# Altium schematic symbol library con-neutrik_ag.SCHLIB: 73 symbols
Pins are listed as number, name and electrical type; pins without a type are passive.

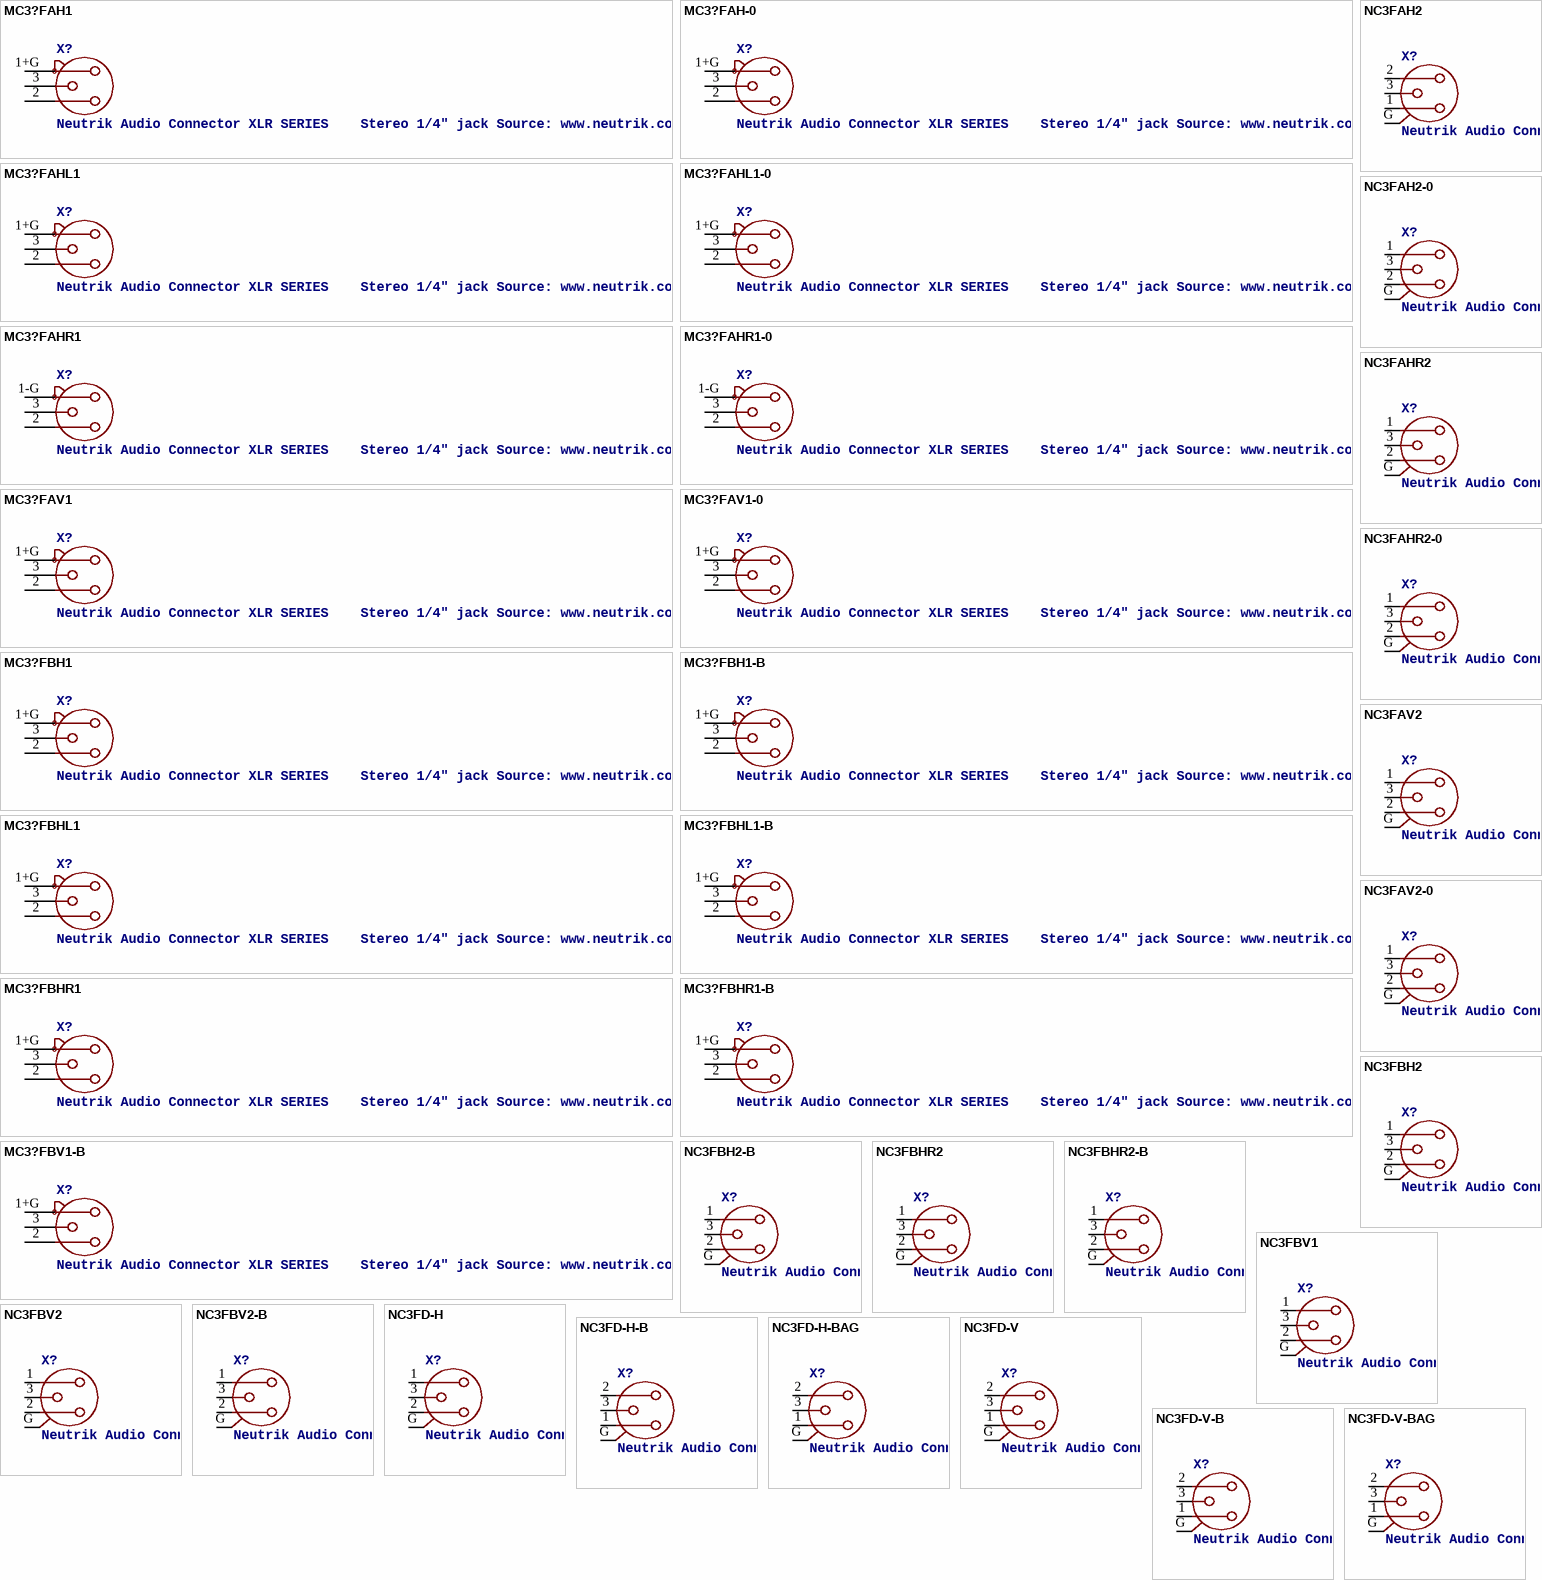
[diagram p0: symbols MC3?FAH1 to NC3FD-V-BAG]

## MC3?FAH1
designator X?, comment Neutrik Audio Connector XLR SERIES    Stereo 1/4" jack Source: www.neutrik.com/
OC_FARNELL: unknown; OC_NEWARK: unknown
footprint NC3FAH1
pins: 1+G 1, 2, 3

## MC3?FAH-0
designator X?, comment Neutrik Audio Connector XLR SERIES    Stereo 1/4" jack Source: www.neutrik.com/
OC_FARNELL: unknown; OC_NEWARK: unknown
footprint NC3FAH1-0
pins: 1+G 1, 2, 3

## MC3?FAHL1
designator X?, comment Neutrik Audio Connector XLR SERIES    Stereo 1/4" jack Source: www.neutrik.com/
OC_FARNELL: unknown; OC_NEWARK: unknown
footprint NC3FAHL1
pins: 1+G 1, 2, 3

## MC3?FAHL1-0
designator X?, comment Neutrik Audio Connector XLR SERIES    Stereo 1/4" jack Source: www.neutrik.com/
OC_FARNELL: unknown; OC_NEWARK: unknown
footprint NC3FAHL1-0
pins: 1+G 1, 2, 3

## MC3?FAHR1
designator X?, comment Neutrik Audio Connector XLR SERIES    Stereo 1/4" jack Source: www.neutrik.com/
OC_FARNELL: unknown; OC_NEWARK: unknown
footprint NC3FAHR1
pins: 1-G 1, 2, 3

## MC3?FAHR1-0
designator X?, comment Neutrik Audio Connector XLR SERIES    Stereo 1/4" jack Source: www.neutrik.com/
OC_FARNELL: unknown; OC_NEWARK: unknown
footprint NC3FAHR1-0
pins: 1-G 1, 2, 3

## MC3?FAV1
designator X?, comment Neutrik Audio Connector XLR SERIES    Stereo 1/4" jack Source: www.neutrik.com/
OC_FARNELL: unknown; OC_NEWARK: unknown
footprint NC3FAV1
pins: 1+G 1, 2, 3

## MC3?FAV1-0
designator X?, comment Neutrik Audio Connector XLR SERIES    Stereo 1/4" jack Source: www.neutrik.com/
OC_FARNELL: unknown; OC_NEWARK: unknown
footprint NC3FAV1-0
pins: 1+G 1, 2, 3

## MC3?FBH1
designator X?, comment Neutrik Audio Connector XLR SERIES    Stereo 1/4" jack Source: www.neutrik.com/
OC_FARNELL: unknown; OC_NEWARK: unknown
footprint NC3FBH1
pins: 1+G 1, 2, 3

## MC3?FBH1-B
designator X?, comment Neutrik Audio Connector XLR SERIES    Stereo 1/4" jack Source: www.neutrik.com/
OC_FARNELL: unknown; OC_NEWARK: unknown
footprint NC3FBH1-B
pins: 1+G 1, 2, 3

## MC3?FBHL1
designator X?, comment Neutrik Audio Connector XLR SERIES    Stereo 1/4" jack Source: www.neutrik.com/
OC_FARNELL: unknown; OC_NEWARK: unknown
footprint NC3FBHL1
pins: 1+G 1, 2, 3

## MC3?FBHL1-B
designator X?, comment Neutrik Audio Connector XLR SERIES    Stereo 1/4" jack Source: www.neutrik.com/
OC_FARNELL: unknown; OC_NEWARK: unknown
footprint NC3FBHL1-B
pins: 1+G 1, 2, 3

## MC3?FBHR1
designator X?, comment Neutrik Audio Connector XLR SERIES    Stereo 1/4" jack Source: www.neutrik.com/
OC_FARNELL: unknown; OC_NEWARK: unknown
footprint NC3FBHR1
pins: 1+G 1, 2, 3

## MC3?FBHR1-B
designator X?, comment Neutrik Audio Connector XLR SERIES    Stereo 1/4" jack Source: www.neutrik.com/
OC_FARNELL: unknown; OC_NEWARK: unknown
footprint NC3FBHR1-B
pins: 1+G 1, 2, 3

## MC3?FBV1-B
designator X?, comment Neutrik Audio Connector XLR SERIES    Stereo 1/4" jack Source: www.neutrik.com/
OC_FARNELL: unknown; OC_NEWARK: unknown
footprint NC3FBV1-B
pins: 1+G 1, 2, 3

## NC3FAH2
designator X?, comment Neutrik Audio Connector XLR SERIES    Stereo 1/4" jack Source: www.neutrik.com/
MPN: NC3FAH2; OC_FARNELL: unknown; OC_NEWARK: 27B4208
footprint NC3FAH2
pins: 1 2, 2 1, 3, G

## NC3FAH2-0
designator X?, comment Neutrik Audio Connector XLR SERIES    Stereo 1/4" jack Source: www.neutrik.com/
MPN: NC3FAH-2-0; OC_FARNELL: unknown; OC_NEWARK: 11J5829
footprint NC3FAH2-0
pins: 1, 2, 3, G

## NC3FAHR2
designator X?, comment Neutrik Audio Connector XLR SERIES    Stereo 1/4" jack Source: www.neutrik.com/
OC_FARNELL: unknown; OC_NEWARK: unknown
footprint NC3FAHR2
pins: 1, 2, 3, G

## NC3FAHR2-0
designator X?, comment Neutrik Audio Connector XLR SERIES    Stereo 1/4" jack Source: www.neutrik.com/
OC_FARNELL: unknown; OC_NEWARK: unknown
footprint NC3FAHR2-0
pins: 1, 2, 3, G

## NC3FAV2
designator X?, comment Neutrik Audio Connector XLR SERIES    Stereo 1/4" jack Source: www.neutrik.com/
MPN: NC3FAV2; MF: NEUTRIK; OC_FARNELL: unknown; OC_NEWARK: 83F7211
footprint NC3FAV2
pins: 1, 2, 3, G

## NC3FAV2-0
designator X?, comment Neutrik Audio Connector XLR SERIES    Stereo 1/4" jack Source: www.neutrik.com/
MPN: NC3FAV-2-0; OC_FARNELL: unknown; OC_NEWARK: 67H5773
footprint NC3FAV2-0
pins: 1, 2, 3, G

## NC3FBH2
designator X?, comment Neutrik Audio Connector XLR SERIES    Stereo 1/4" jack Source: www.neutrik.com/
MPN: NC3FBH2; OC_FARNELL: unknown; OC_NEWARK: 27B4226
footprint NC3FBH2
pins: 1, 2, 3, G

## NC3FBH2-B
designator X?, comment Neutrik Audio Connector XLR SERIES    Stereo 1/4" jack Source: www.neutrik.com/
OC_FARNELL: unknown; OC_NEWARK: unknown
footprint NC3FBH2-B
pins: 1, 2, 3, G

## NC3FBHR2
designator X?, comment Neutrik Audio Connector XLR SERIES    Stereo 1/4" jack Source: www.neutrik.com/
MPN: NC3FBHR2-M25; OC_FARNELL: unknown; OC_NEWARK: 68R2499
footprint NC3FBHR2
pins: 1, 2, 3, G

## NC3FBHR2-B
designator X?, comment Neutrik Audio Connector XLR SERIES    Stereo 1/4" jack Source: www.neutrik.com/
OC_FARNELL: unknown; OC_NEWARK: unknown
footprint NC3FBHR2-B
pins: 1, 2, 3, G

## NC3FBV1
designator X?, comment Neutrik Audio Connector XLR SERIES    Stereo 1/4" jack Source: www.neutrik.com/
MPN: NC3FBV1; MF: NEUTRIK; OC_FARNELL: unknown; OC_NEWARK: 83F7212
footprint NC3FBV1
pins: 1, 2, 3, G

## NC3FBV2
designator X?, comment Neutrik Audio Connector XLR SERIES    Stereo 1/4" jack Source: www.neutrik.com/
MPN: NC3FBV2; OC_FARNELL: unknown; OC_NEWARK: 27B4243
footprint NC3FBV2
pins: 1, 2, 3, G

## NC3FBV2-B
designator X?, comment Neutrik Audio Connector XLR SERIES    Stereo 1/4" jack Source: www.neutrik.com/
OC_FARNELL: unknown; OC_NEWARK: unknown
footprint NC3FBV2-B
pins: 1, 2, 3, G

## NC3FD-H
designator X?, comment Neutrik Audio Connector XLR SERIES    Stereo 1/4" jack Source: www.neutrik.com/
MPN: NC3FD-H; MF: NEUTRIK; OC_FARNELL: 1608398; OC_NEWARK: 87F6600
footprint NC3FD-H
pins: 1, 2, 3, G

## NC3FD-H-B
designator X?, comment Neutrik Audio Connector XLR SERIES    Stereo 1/4" jack Source: www.neutrik.com/
MPN: NC3FD-H-B; OC_FARNELL: unknown; OC_NEWARK: 27B4248
footprint NC3FD-H-B
pins: 1 2, 2 1, 3, G

## NC3FD-H-BAG
designator X?, comment Neutrik Audio Connector XLR SERIES    Stereo 1/4" jack Source: www.neutrik.com/
MPN: NC3FD-H-BAG; MF: NEUTRIK; OC_FARNELL: 1804674; OC_NEWARK: 89F6038
footprint NC3FD-H-BAG
pins: 1 2, 2 1, 3, G

## NC3FD-V
designator X?, comment Neutrik Audio Connector XLR SERIES    Stereo 1/4" jack Source: www.neutrik.com/
MPN: NC3FDV; MF: FARNELL; OC_FARNELL: 308869; OC_NEWARK: 07WX7308
footprint NC3FD-V
pins: 1 2, 2 1, 3, G

## NC3FD-V-B
designator X?, comment Neutrik Audio Connector XLR SERIES    Stereo 1/4" jack Source: www.neutrik.com/
MPN: NC3FD-V-B; MF: NEUTRIK; OC_FARNELL: 5806150; OC_NEWARK: 27B4255
footprint NC3FD-V-B
pins: 1 2, 2 1, 3, G

## NC3FD-V-BAG
designator X?, comment Neutrik Audio Connector XLR SERIES    Stereo 1/4" jack Source: www.neutrik.com/
MPN: NC3FD-V-BAG; OC_FARNELL: unknown; OC_NEWARK: 89F6042
footprint NC3FD-V-BAG
pins: 1 2, 2 1, 3, G

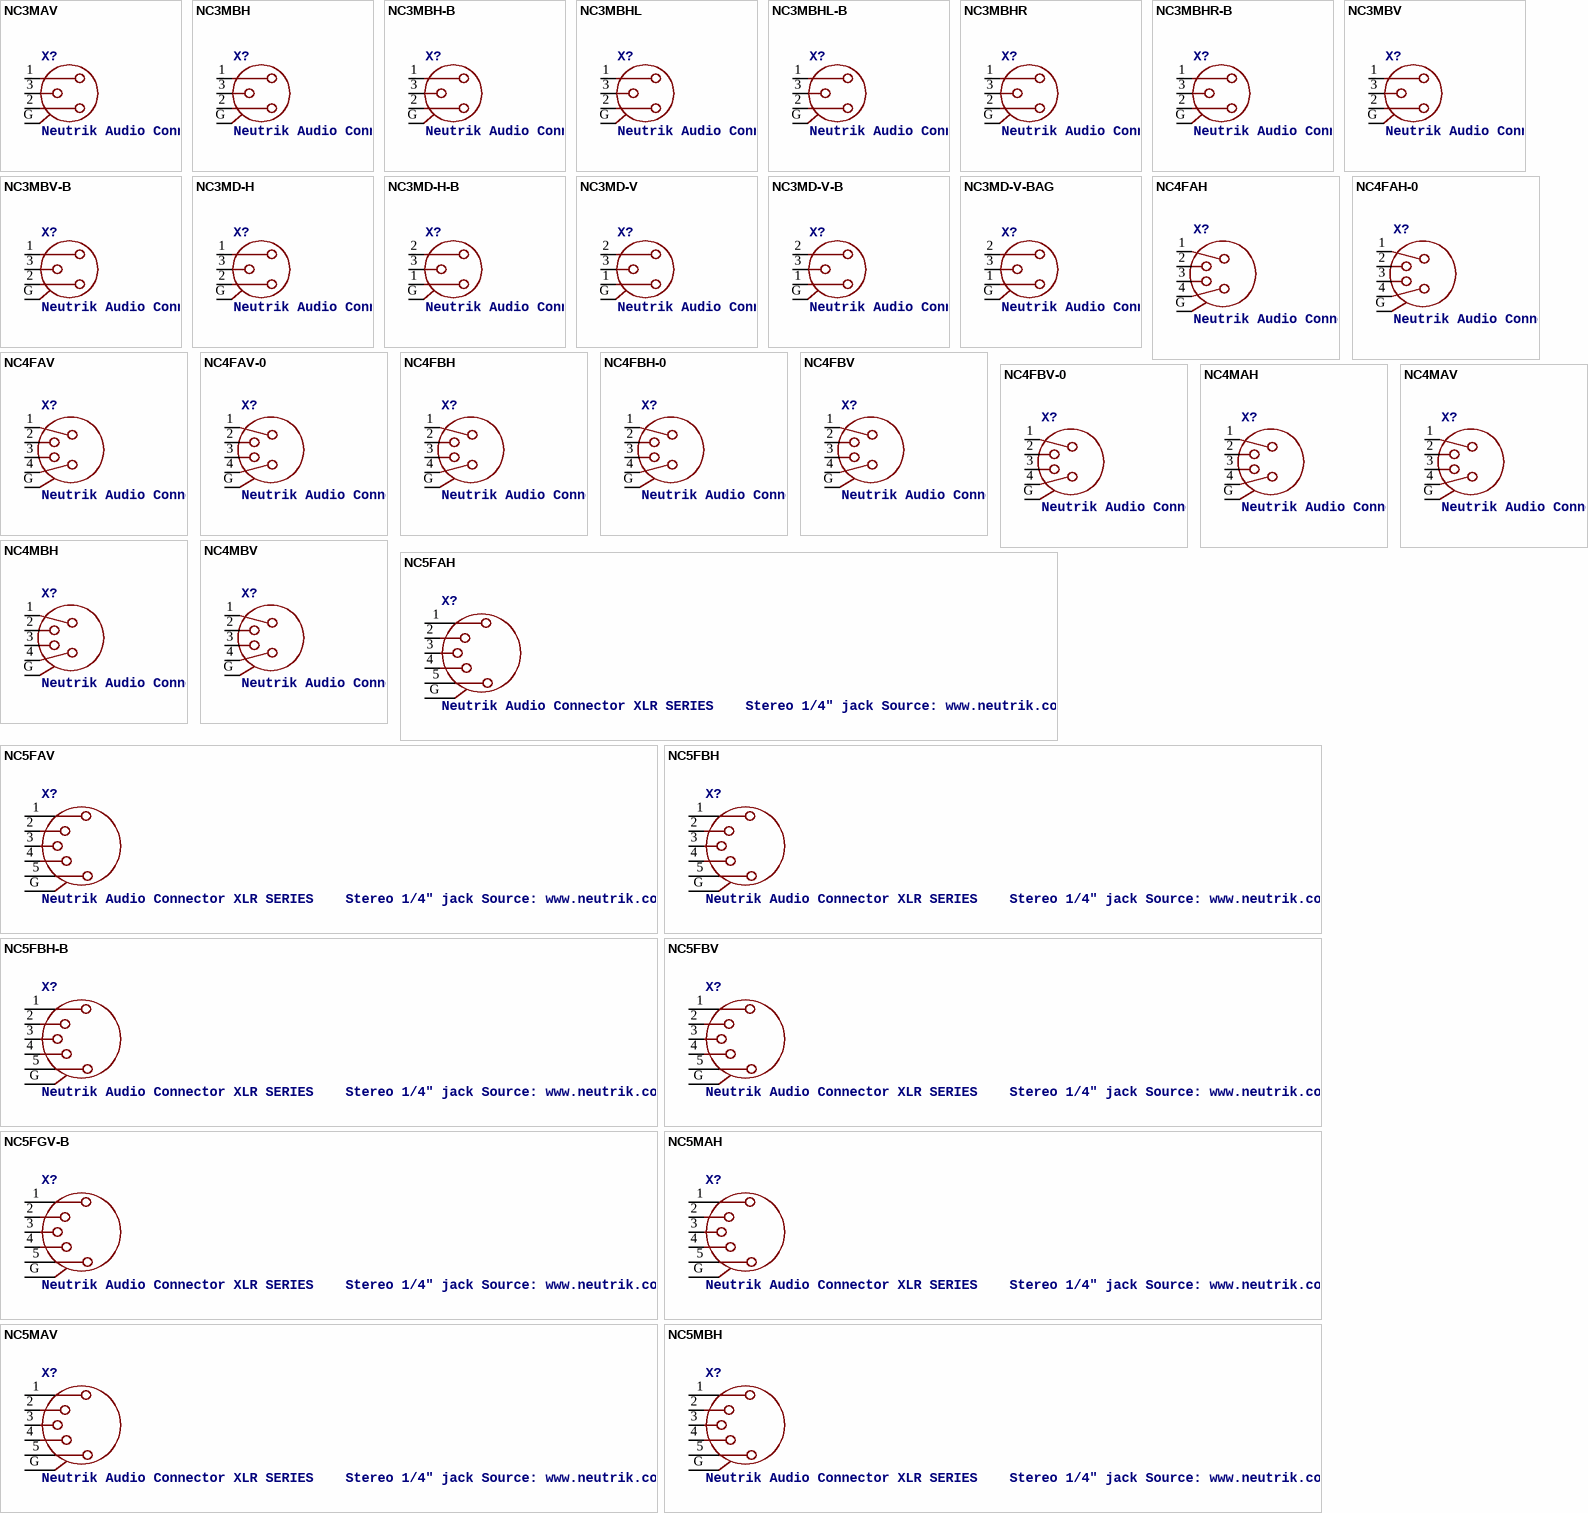
[diagram p1: symbols NC3MAV to NC5MBH]

## NC3MAV
designator X?, comment Neutrik Audio Connector XLR SERIES    Stereo 1/4" jack Source: www.neutrik.com/
MPN: NC3MAV; MF: FARNELL; OC_FARNELL: 724531; OC_NEWARK: 46WX3058
footprint NC3MAV
pins: 1, 2, 3, G

## NC3MBH
designator X?, comment Neutrik Audio Connector XLR SERIES    Stereo 1/4" jack Source: www.neutrik.com/
MPN: NC3MBH; MF: NEUTRIK; OC_FARNELL: unknown; OC_NEWARK: 91F3470
footprint NC3MBH
pins: 1, 2, 3, G

## NC3MBH-B
designator X?, comment Neutrik Audio Connector XLR SERIES    Stereo 1/4" jack Source: www.neutrik.com/
MPN: NC3MBH-B; OC_FARNELL: unknown; OC_NEWARK: 27B4288
footprint NC3MBH-B
pins: 1, 2, 3, G

## NC3MBHL
designator X?, comment Neutrik Audio Connector XLR SERIES    Stereo 1/4" jack Source: www.neutrik.com/
OC_FARNELL: unknown; OC_NEWARK: unknown
footprint NC3MBHL
pins: 1, 2, 3, G

## NC3MBHL-B
designator X?, comment Neutrik Audio Connector XLR SERIES    Stereo 1/4" jack Source: www.neutrik.com/
OC_FARNELL: unknown; OC_NEWARK: unknown
footprint NC3MBHL-B
pins: 1, 2, 3, G

## NC3MBHR
designator X?, comment Neutrik Audio Connector XLR SERIES    Stereo 1/4" jack Source: www.neutrik.com/
MPN: NC3MBHR-M25; OC_FARNELL: unknown; OC_NEWARK: 68R2500
footprint NC3MBHR
pins: 1, 2, 3, G

## NC3MBHR-B
designator X?, comment Neutrik Audio Connector XLR SERIES    Stereo 1/4" jack Source: www.neutrik.com/
OC_FARNELL: unknown; OC_NEWARK: unknown
footprint NC3MBHR-B
pins: 1, 2, 3, G

## NC3MBV
designator X?, comment Neutrik Audio Connector XLR SERIES    Stereo 1/4" jack Source: www.neutrik.com/
MPN: NC3MBV; MF: NEUTRIK; OC_FARNELL: unknown; OC_NEWARK: 83F7213
footprint NC3MBV
pins: 1, 2, 3, G

## NC3MBV-B
designator X?, comment Neutrik Audio Connector XLR SERIES    Stereo 1/4" jack Source: www.neutrik.com/
OC_FARNELL: unknown; OC_NEWARK: unknown
footprint NC3MBV-B
pins: 1, 2, 3, G

## NC3MD-H
designator X?, comment Neutrik Audio Connector XLR SERIES    Stereo 1/4" jack Source: www.neutrik.com/
MPN: NC3MD-H; MF: NEUTRIK; OC_FARNELL: 1769923; OC_NEWARK: 87F6598
footprint NC3MD-H
pins: 1, 2, 3, G

## NC3MD-H-B
designator X?, comment Neutrik Audio Connector XLR SERIES    Stereo 1/4" jack Source: www.neutrik.com/
MPN: NC3MD-H-B; OC_FARNELL: unknown; OC_NEWARK: 27B4298
footprint NC3MD-H-B
pins: 1 2, 2 1, 3, G

## NC3MD-V
designator X?, comment Neutrik Audio Connector XLR SERIES    Stereo 1/4" jack Source: www.neutrik.com/
MPN: NC3MD-V; OC_FARNELL: 308845; OC_NEWARK: 87F6590
footprint NC3MD-V
pins: 1 2, 2 1, 3, G

## NC3MD-V-B
designator X?, comment Neutrik Audio Connector XLR SERIES    Stereo 1/4" jack Source: www.neutrik.com/
OC_FARNELL: unknown; OC_NEWARK: unknown
footprint NC3MD-V-B
pins: 1 2, 2 1, 3, G

## NC3MD-V-BAG
designator X?, comment Neutrik Audio Connector XLR SERIES    Stereo 1/4" jack Source: www.neutrik.com/
MPN: NC3MD-V-BAG; MF: NEUTRIK; OC_FARNELL: unknown; OC_NEWARK: 89F6040
footprint NC3MD-V-BAG
pins: 1 2, 2 1, 3, G

## NC4FAH
designator X?, comment Neutrik Audio Connector XLR SERIES    Stereo 1/4" jack Source: www.neutrik.com/
MPN: NC4FAH; OC_FARNELL: unknown; OC_NEWARK: 88C9787
footprint NC4FAH
pins: 1, 2, 3, 4, G

## NC4FAH-0
designator X?, comment Neutrik Audio Connector XLR SERIES    Stereo 1/4" jack Source: www.neutrik.com/
MPN: NC4FAH-0; OC_FARNELL: unknown; OC_NEWARK: 45K1611
footprint NC4FAH-0
pins: 1, 2, 3, 4, G

## NC4FAV
designator X?, comment Neutrik Audio Connector XLR SERIES    Stereo 1/4" jack Source: www.neutrik.com/
OC_FARNELL: unknown; OC_NEWARK: unknown
footprint NC4FAV
pins: 1, 2, 3, 4, G

## NC4FAV-0
designator X?, comment Neutrik Audio Connector XLR SERIES    Stereo 1/4" jack Source: www.neutrik.com/
MPN: NC4FAV-0; OC_FARNELL: unknown; OC_NEWARK: 72C8703
footprint NC4FAV-0
pins: 1, 2, 3, 4, G

## NC4FBH
designator X?, comment Neutrik Audio Connector XLR SERIES    Stereo 1/4" jack Source: www.neutrik.com/
OC_FARNELL: unknown; OC_NEWARK: unknown
footprint NC4FBH
pins: 1, 2, 3, 4, G

## NC4FBH-0
designator X?, comment Neutrik Audio Connector XLR SERIES    Stereo 1/4" jack Source: www.neutrik.com/
OC_FARNELL: unknown; OC_NEWARK: unknown
footprint NC4FBH-0
pins: 1, 2, 3, 4, G

## NC4FBV
designator X?, comment Neutrik Audio Connector XLR SERIES    Stereo 1/4" jack Source: www.neutrik.com/
MPN: NC4FBV; OC_FARNELL: unknown; OC_NEWARK: 10J0667
footprint NC4FBV
pins: 1, 2, 3, 4, G

## NC4FBV-0
designator X?, comment Neutrik Audio Connector XLR SERIES    Stereo 1/4" jack Source: www.neutrik.com/
OC_FARNELL: unknown; OC_NEWARK: unknown
footprint NC4FBV-0
pins: 1, 2, 3, 4, G

## NC4MAH
designator X?, comment Neutrik Audio Connector XLR SERIES    Stereo 1/4" jack Source: www.neutrik.com/
MPN: NC4MAH; OC_FARNELL: unknown; OC_NEWARK: 10J0671
footprint NC4MAH
pins: 1, 2, 3, 4, G

## NC4MAV
designator X?, comment Neutrik Audio Connector XLR SERIES    Stereo 1/4" jack Source: www.neutrik.com/
MPN: NC4MAV; OC_FARNELL: unknown; OC_NEWARK: 10J0672
footprint NC4MAV
pins: 1, 2, 3, 4, G

## NC4MBH
designator X?, comment Neutrik Audio Connector XLR SERIES    Stereo 1/4" jack Source: www.neutrik.com/
OC_FARNELL: unknown; OC_NEWARK: unknown
footprint NC4MBH
pins: 1, 2, 3, 4, G

## NC4MBV
designator X?, comment Neutrik Audio Connector XLR SERIES    Stereo 1/4" jack Source: www.neutrik.com/
OC_FARNELL: unknown; OC_NEWARK: unknown
footprint NC4MBV
pins: 1, 2, 3, 4, G

## NC5FAH
designator X?, comment Neutrik Audio Connector XLR SERIES    Stereo 1/4" jack Source: www.neutrik.com/
MPN: NC5FAH; MF: FARNELL; OC_FARNELL: 8020418; OC_NEWARK: 38K6010
footprint NC5FAH
pins: 1, 2, 3, 4, 5, G

## NC5FAV
designator X?, comment Neutrik Audio Connector XLR SERIES    Stereo 1/4" jack Source: www.neutrik.com/
MPN: NC5FAV; OC_FARNELL: unknown; OC_NEWARK: 94C1526
footprint NC5FAV
pins: 1, 2, 3, 4, 5, G

## NC5FBH
designator X?, comment Neutrik Audio Connector XLR SERIES    Stereo 1/4" jack Source: www.neutrik.com/
MPN: NC5FBH; OC_FARNELL: 8314616; OC_NEWARK: 73C3494
footprint NC5FBH
pins: 1, 2, 3, 4, 5, G

## NC5FBH-B
designator X?, comment Neutrik Audio Connector XLR SERIES    Stereo 1/4" jack Source: www.neutrik.com/
OC_FARNELL: unknown; OC_NEWARK: unknown
footprint NC5FBH-B
pins: 1, 2, 3, 4, 5, G

## NC5FBV
designator X?, comment Neutrik Audio Connector XLR SERIES    Stereo 1/4" jack Source: www.neutrik.com/
MPN: NC5FBV; OC_FARNELL: 8314632; OC_NEWARK: 87K0089
footprint NC5FBV
pins: 1, 2, 3, 4, 5, G

## NC5FGV-B
designator X?, comment Neutrik Audio Connector XLR SERIES    Stereo 1/4" jack Source: www.neutrik.com/
OC_FARNELL: unknown; OC_NEWARK: unknown
footprint NC5FBV-B
pins: 1, 2, 3, 4, 5, G

## NC5MAH
designator X?, comment Neutrik Audio Connector XLR SERIES    Stereo 1/4" jack Source: www.neutrik.com/
MPN: NC5MAH; MF: FARNELL; OC_FARNELL: 8020396; OC_NEWARK: 38K6012
footprint NC5MAH
pins: 1, 2, 3, 4, 5, G

## NC5MAV
designator X?, comment Neutrik Audio Connector XLR SERIES    Stereo 1/4" jack Source: www.neutrik.com/
MPN: NC5MAV; OC_FARNELL: unknown; OC_NEWARK: 86C7397
footprint NC5MAV
pins: 1, 2, 3, 4, 5, G

## NC5MBH
designator X?, comment Neutrik Audio Connector XLR SERIES    Stereo 1/4" jack Source: www.neutrik.com/
MPN: NC5MBH; OC_FARNELL: 8314624; OC_NEWARK: 92K7339
footprint NC5MBH
pins: 1, 2, 3, 4, 5, G

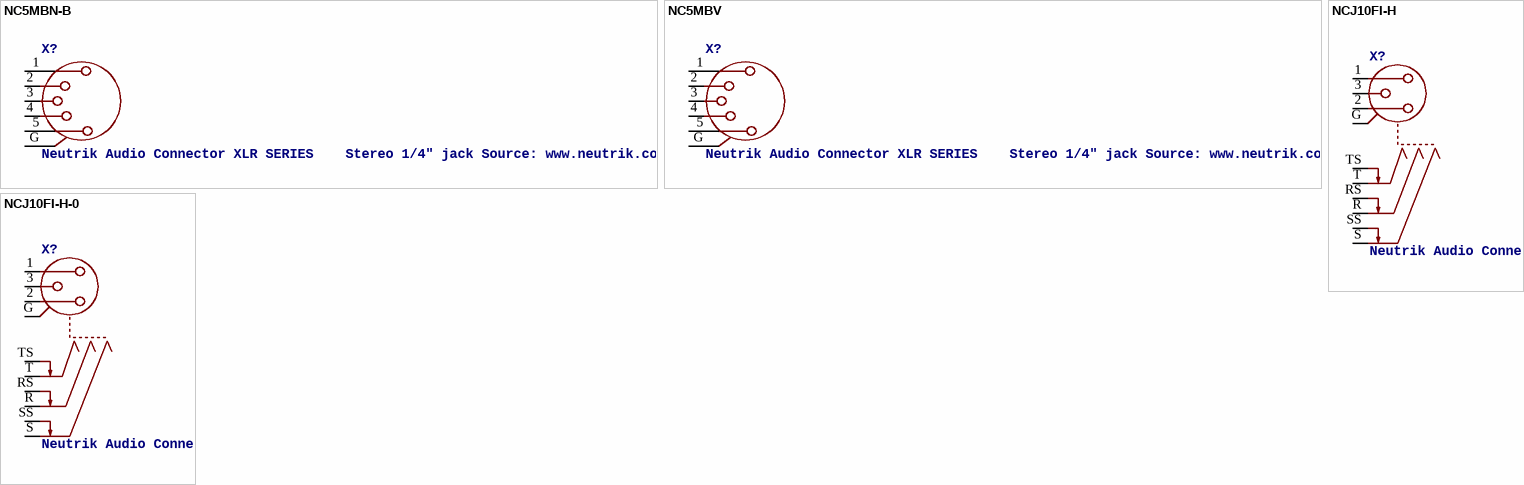
[diagram p2: symbols NC5MBN-B to NCJ10FI-H-0]

## NC5MBN-B
designator X?, comment Neutrik Audio Connector XLR SERIES    Stereo 1/4" jack Source: www.neutrik.com/
OC_FARNELL: unknown; OC_NEWARK: unknown
footprint NC5MBH-B
pins: 1, 2, 3, 4, 5, G

## NC5MBV
designator X?, comment Neutrik Audio Connector XLR SERIES    Stereo 1/4" jack Source: www.neutrik.com/
MPN: NC5MBV; OC_FARNELL: 8314640; OC_NEWARK: 92K7340
footprint NC5MBV
pins: 1, 2, 3, 4, 5, G

## NCJ10FI-H
designator X?, comment Neutrik Audio Connector XLR SERIES    Stereo 1/4" jack with switch Source: www.neutrik.com/
OC_FARNELL: unknown; OC_NEWARK: unknown
footprint NCJ10FI-H
pins: 1, 2, 3, G, R, RS, S, SS, T, TS

## NCJ10FI-H-0
designator X?, comment Neutrik Audio Connector XLR SERIES    Stereo 1/4" jack with switch Source: www.neutrik.com/
MPN: NCJ10FI-H-0; OC_FARNELL: unknown; OC_NEWARK: 99B1398
footprint NCJ10FI-H-0
pins: 1, 2, 3, G, R, RS, S, SS, T, TS